# Altium footprint library Connector_PinHeader_2.54mm.PcbLib: 278 footprints (part 13 of 18)
Each footprint in its own frame and in the unit in brackets; x right, y up, seen from the top. Pads: shape width x height; smd on the part's side, far side on the other; paste and mask are expansions set on the pad; w line width, h text height; cw(c..) or ccw(c..) is an arc to the next point about the centre after c.
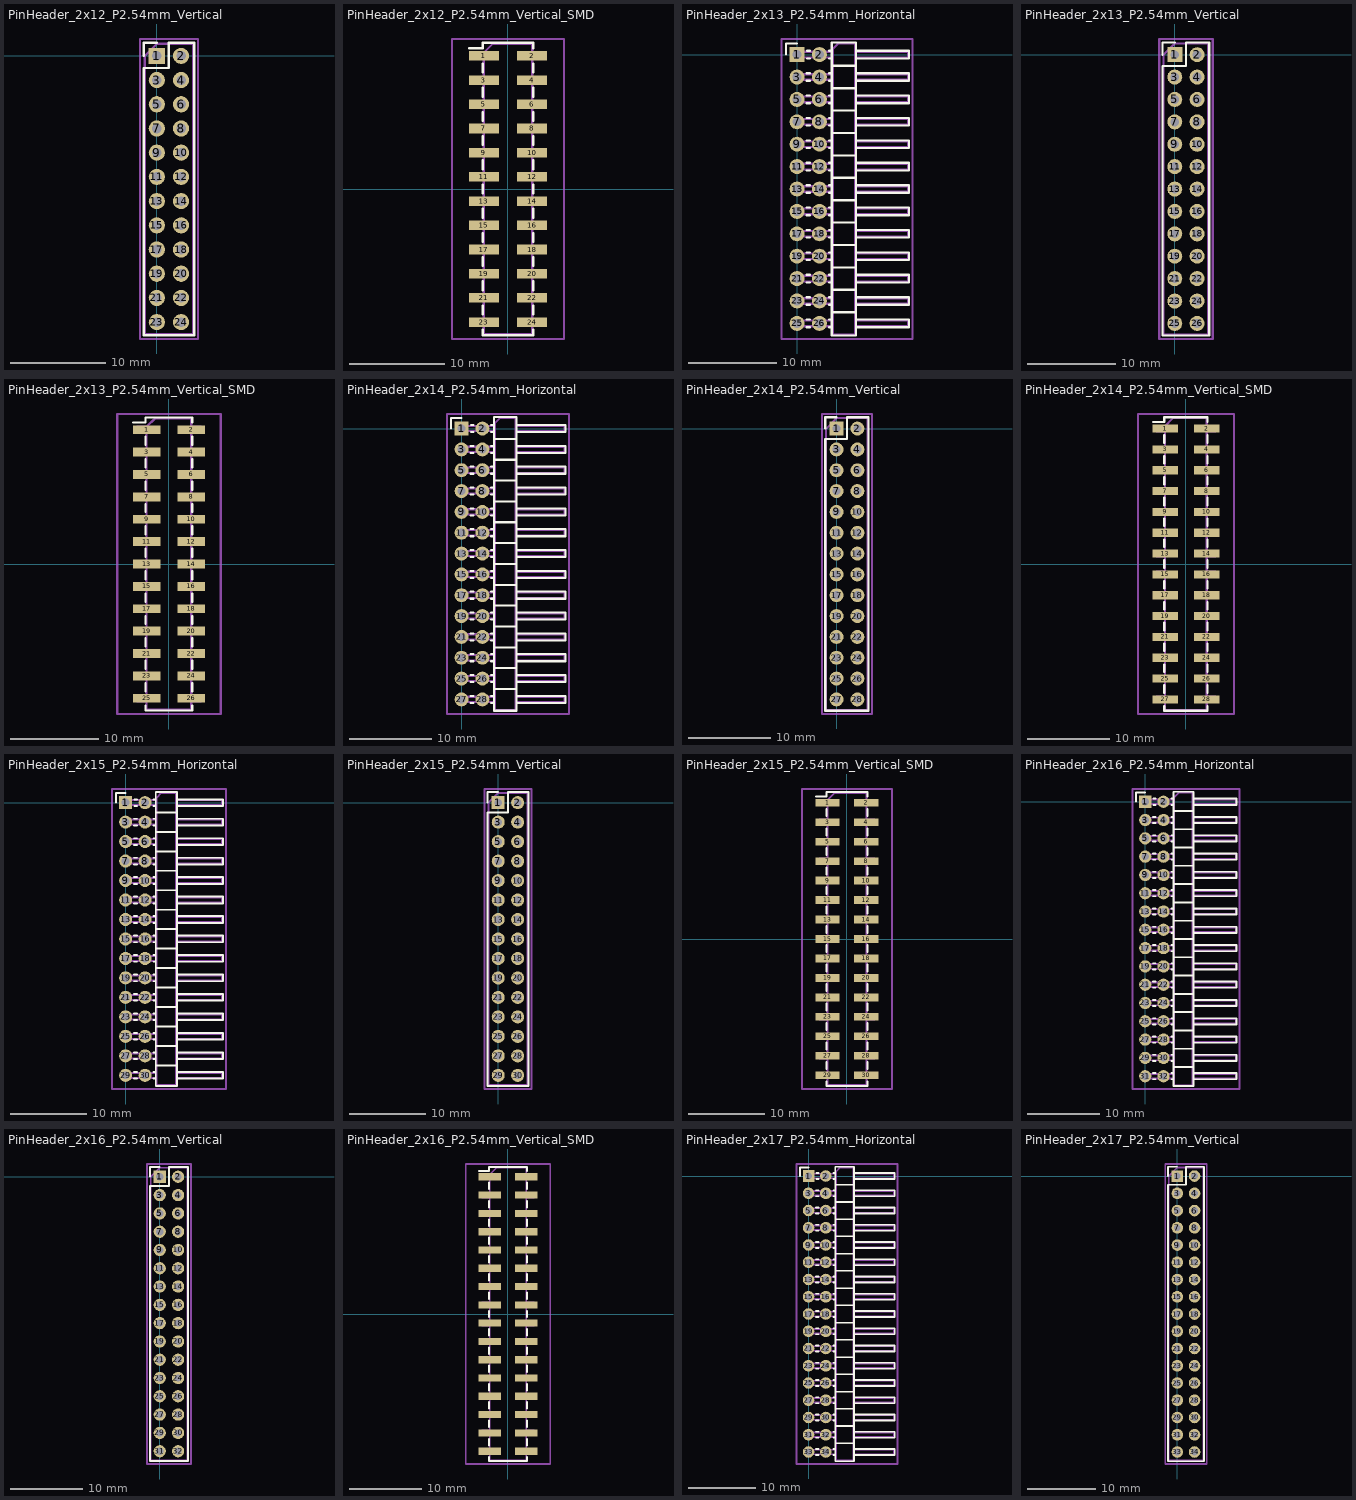
[diagram p12: the footprints below, top view; thin cyan lines are the x and y axes]

## PinHeader_2x12_P2.54mm_Vertical [mm]
pads (24):
  rect 1.7x1.7 hole 1: 1(0,0)
  round 1.7 hole 1: 2(2.54,0) 3(0,-2.54) 4(2.54,-2.54) 5(0,-5.08) 6(2.54,-5.08) 7(0,-7.62) 8(2.54,-7.62) 9(0,-10.16) 10(2.54,-10.16) 11(0,-12.7) 12(2.54,-12.7) 13(0,-15.24) 14(2.54,-15.24) 15(0,-17.78) 16(2.54,-17.78) 17(0,-20.32) 18(2.54,-20.32) 19(0,-22.86) 20(2.54,-22.86) 21(0,-25.4) 22(2.54,-25.4) 23(0,-27.94) 24(2.54,-27.94)
F.SilkS:
  lines w0.254: -1.38,0 -1.38,1.38 0,1.38 ; -1.38,-29.32 3.92,-29.32 3.92,1.38 1.27,1.38 1.27,-1.27 -1.38,-1.27 -1.38,-29.32
Top Assembly:
  lines w0.254: -1.27,-29.21 3.81,-29.21 3.81,1.27 0,1.27 -1.27,0 -1.27,-29.21
  text "'.Designator'" at 2.11,-18.017 h1
Top Courtyard:
  lines w0.254: -1.77,-29.71 4.32,-29.71 4.32,1.77 -1.77,1.77 -1.77,-29.71
Top Designator:
  text ".Designator" at -6.343,-14.478 h1.52

## PinHeader_2x12_P2.54mm_Vertical_SMD [mm]
pads (24):
  rect 3.15x1 smd: 1(-2.525,13.97) 2(2.525,13.97) 3(-2.525,11.43) 4(2.525,11.43) 5(-2.525,8.89) 6(2.525,8.89) 7(-2.525,6.35) 8(2.525,6.35) 9(-2.525,3.81) 10(2.525,3.81) 11(-2.525,1.27) 12(2.525,1.27) 13(-2.525,-1.27) 14(2.525,-1.27) 15(-2.525,-3.81) 16(2.525,-3.81) 17(-2.525,-6.35) 18(2.525,-6.35) 19(-2.525,-8.89) 20(2.525,-8.89) 21(-2.525,-11.43) 22(2.525,-11.43) 23(-2.525,-13.97) 24(2.525,-13.97)
F.SilkS:
  lines w0.254: -4.04,14.78 -2.65,14.78 -2.65,15.35 2.65,15.35 2.65,14.78 ; -2.65,-14.78 -2.65,-15.35 2.65,-15.35 2.65,-14.78 ; -2.65,-13.16 -2.65,-12.24 ; -2.65,-10.62 -2.65,-9.7 ; -2.65,-8.08 -2.65,-7.16 ; -2.65,-5.54 -2.65,-4.62 ; -2.65,-3 -2.65,-2.08 ; -2.65,-0.46 -2.65,0.46 ; -2.65,2.08 -2.65,3 ; -2.65,4.62 -2.65,5.54 ; -2.65,7.16 -2.65,8.08 ; -2.65,9.7 -2.65,10.62 ; -2.65,12.24 -2.65,13.16 ; 2.65,-13.16 2.65,-12.24 ; 2.65,-10.62 2.65,-9.7 ; 2.65,-8.08 2.65,-7.16 ; 2.65,-5.54 2.65,-4.62 ; 2.65,-3 2.65,-2.08 ; 2.65,-0.46 2.65,0.46 ; 2.65,2.08 2.65,3 ; 2.65,4.62 2.65,5.54 ; 2.65,7.16 2.65,8.08 ; 2.65,9.7 2.65,10.62 ; 2.65,12.24 2.65,13.16
Top Assembly:
  lines w0.254: -2.54,-14.29 -3.6,-14.29 -3.6,-13.65 -2.54,-13.65 ; -2.54,-11.75 -3.6,-11.75 -3.6,-11.11 -2.54,-11.11 ; -2.54,-9.21 -3.6,-9.21 -3.6,-8.57 -2.54,-8.57 ; -2.54,-6.67 -3.6,-6.67 -3.6,-6.03 -2.54,-6.03 ; -2.54,-4.13 -3.6,-4.13 -3.6,-3.49 -2.54,-3.49 ; -2.54,-1.59 -3.6,-1.59 -3.6,-0.95 -2.54,-0.95 ; -2.54,0.95 -3.6,0.95 -3.6,1.59 -2.54,1.59 ; -2.54,3.49 -3.6,3.49 -3.6,4.13 -2.54,4.13 ; -2.54,6.03 -3.6,6.03 -3.6,6.67 -2.54,6.67 ; -2.54,8.57 -3.6,8.57 -3.6,9.21 -2.54,9.21 ; -2.54,11.11 -3.6,11.11 -3.6,11.75 -2.54,11.75 ; -2.54,13.65 -3.6,13.65 -3.6,14.29 -2.54,14.29 ; 2.54,-14.29 3.6,-14.29 3.6,-13.65 2.54,-13.65 ; 2.54,-11.75 3.6,-11.75 3.6,-11.11 2.54,-11.11 ; 2.54,-9.21 3.6,-9.21 3.6,-8.57 2.54,-8.57 ; 2.54,-6.67 3.6,-6.67 3.6,-6.03 2.54,-6.03 ; 2.54,-4.13 3.6,-4.13 3.6,-3.49 2.54,-3.49 ; 2.54,-1.59 3.6,-1.59 3.6,-0.95 2.54,-0.95 ; 2.54,0.95 3.6,0.95 3.6,1.59 2.54,1.59 ; 2.54,3.49 3.6,3.49 3.6,4.13 2.54,4.13 ; 2.54,6.03 3.6,6.03 3.6,6.67 2.54,6.67 ; 2.54,8.57 3.6,8.57 3.6,9.21 2.54,9.21 ; 2.54,11.11 3.6,11.11 3.6,11.75 2.54,11.75 ; 2.54,13.65 3.6,13.65 3.6,14.29 2.54,14.29 ; -2.54,14.29 -2.54,-15.24 2.54,-15.24 2.54,15.24 -1.59,15.24 -2.54,14.29
  text "'.Designator'" at 0.84,-4.047 h1
Top Courtyard:
  lines w0.254: -5.87,-15.74 5.88,-15.74 5.88,15.74 -5.87,15.74 -5.87,-15.74
Top Designator:
  text ".Designator" at -7.613,-0.508 h1.52

## PinHeader_2x13_P2.54mm_Horizontal [mm]
pads (26):
  rect 1.7x1.7 hole 1: 1(0,0)
  round 1.7 hole 1: 2(2.54,0) 3(0,-2.54) 4(2.54,-2.54) 5(0,-5.08) 6(2.54,-5.08) 7(0,-7.62) 8(2.54,-7.62) 9(0,-10.16) 10(2.54,-10.16) 11(0,-12.7) 12(2.54,-12.7) 13(0,-15.24) 14(2.54,-15.24) 15(0,-17.78) 16(2.54,-17.78) 17(0,-20.32) 18(2.54,-20.32) 19(0,-22.86) 20(2.54,-22.86) 21(0,-25.4) 22(2.54,-25.4) 23(0,-27.94) 24(2.54,-27.94) 25(0,-30.48) 26(2.54,-30.48)
F.SilkS:
  lines w0.254: -1.27,0 -1.27,1.27 0,1.27 ; 1.077,-30.91 1.463,-30.91 ; 1.077,-30.05 1.463,-30.05 ; 1.077,-28.37 1.463,-28.37 ; 1.077,-27.51 1.463,-27.51 ; 1.077,-25.83 1.463,-25.83 ; 1.077,-24.97 1.463,-24.97 ; 1.077,-23.29 1.463,-23.29 ; 1.077,-22.43 1.463,-22.43 ; 1.077,-20.75 1.463,-20.75 ; 1.077,-19.89 1.463,-19.89 ; 1.077,-18.21 1.463,-18.21 ; 1.077,-17.35 1.463,-17.35 ; 1.077,-15.67 1.463,-15.67 ; 1.077,-14.81 1.463,-14.81 ; 1.077,-13.13 1.463,-13.13 ; 1.077,-12.27 1.463,-12.27 ; 1.077,-10.59 1.463,-10.59 ; 1.077,-9.73 1.463,-9.73 ; 1.077,-8.05 1.463,-8.05 ; 1.077,-7.19 1.463,-7.19 ; 1.077,-5.51 1.463,-5.51 ; 1.077,-4.65 1.463,-4.65 ; 1.077,-2.97 1.463,-2.97 ; 1.077,-2.11 1.463,-2.11 ; 1.16,-0.43 1.463,-0.43 ; 1.16,0.43 1.463,0.43 ; 3.617,-30.91 3.93,-30.91 ; 3.617,-30.05 3.93,-30.05 ; 3.617,-28.37 3.93,-28.37 ; 3.617,-27.51 3.93,-27.51 ; 3.617,-25.83 3.93,-25.83 ; 3.617,-24.97 3.93,-24.97 ; 3.617,-23.29 3.93,-23.29 ; 3.617,-22.43 3.93,-22.43 ; 3.617,-20.75 3.93,-20.75 ; 3.617,-19.89 3.93,-19.89 ; 3.617,-18.21 3.93,-18.21 ; 3.617,-17.35 3.93,-17.35 ; 3.617,-15.67 3.93,-15.67 ; 3.617,-14.81 3.93,-14.81 ; 3.617,-13.13 3.93,-13.13 ; 3.617,-12.27 3.93,-12.27 ; 3.617,-10.59 3.93,-10.59 ; 3.617,-9.73 3.93,-9.73 ; 3.617,-8.05 3.93,-8.05 ; 3.617,-7.19 3.93,-7.19 ; 3.617,-5.51 3.93,-5.51 ; 3.617,-4.65 3.93,-4.65 ; 3.617,-2.97 3.93,-2.97 ; 3.617,-2.11 3.93,-2.11 ; 3.617,-0.43 3.93,-0.43 ; 3.617,0.43 3.93,0.43 ; 3.93,-29.21 6.69,-29.21 ; 3.93,-26.67 6.69,-26.67 ; 3.93,-24.13 6.69,-24.13 ; 3.93,-21.59 6.69,-21.59 ; 3.93,-19.05 6.69,-19.05 ; 3.93,-16.51 6.69,-16.51 ; 3.93,-13.97 6.69,-13.97 ; 3.93,-11.43 6.69,-11.43 ; 3.93,-8.89 6.69,-8.89 ; 3.93,-6.35 6.69,-6.35 ; 3.93,-3.81 6.69,-3.81 ; 3.93,-1.27 6.69,-1.27 ; 6.69,-30.91 12.69,-30.91 12.69,-30.05 6.69,-30.05 ; 6.69,-28.37 12.69,-28.37 12.69,-27.51 6.69,-27.51 ; 6.69,-25.83 12.69,-25.83 12.69,-24.97 6.69,-24.97 ; 6.69,-23.29 12.69,-23.29 12.69,-22.43 6.69,-22.43 ; 6.69,-20.75 12.69,-20.75 12.69,-19.89 6.69,-19.89 ; 6.69,-18.21 12.69,-18.21 12.69,-17.35 6.69,-17.35 ; 6.69,-15.67 12.69,-15.67 12.69,-14.81 6.69,-14.81 ; 6.69,-13.13 12.69,-13.13 12.69,-12.27 6.69,-12.27 ; 6.69,-10.59 12.69,-10.59 12.69,-9.73 6.69,-9.73 ; 6.69,-8.05 12.69,-8.05 12.69,-7.19 6.69,-7.19 ; 6.69,-5.51 12.69,-5.51 12.69,-4.65 6.69,-4.65 ; 6.69,-2.97 12.69,-2.97 12.69,-2.11 6.69,-2.11 ; 3.93,-31.86 6.69,-31.86 6.69,1.38 3.93,1.38 3.93,-31.86 ; 6.69,-0.43 12.69,-0.43 12.69,0.43 6.69,0.43 6.69,-0.43
Top Assembly:
  lines w0.254: 4.04,-30.8 -0.32,-30.8 -0.32,-30.16 4.04,-30.16 ; 4.04,-28.26 -0.32,-28.26 -0.32,-27.62 4.04,-27.62 ; 4.04,-25.72 -0.32,-25.72 -0.32,-25.08 4.04,-25.08 ; 4.04,-23.18 -0.32,-23.18 -0.32,-22.54 4.04,-22.54 ; 4.04,-20.64 -0.32,-20.64 -0.32,-20 4.04,-20 ; 4.04,-18.1 -0.32,-18.1 -0.32,-17.46 4.04,-17.46 ; 4.04,-15.56 -0.32,-15.56 -0.32,-14.92 4.04,-14.92 ; 4.04,-13.02 -0.32,-13.02 -0.32,-12.38 4.04,-12.38 ; 4.04,-10.48 -0.32,-10.48 -0.32,-9.84 4.04,-9.84 ; 4.04,-7.94 -0.32,-7.94 -0.32,-7.3 4.04,-7.3 ; 4.04,-5.4 -0.32,-5.4 -0.32,-4.76 4.04,-4.76 ; 4.04,-2.86 -0.32,-2.86 -0.32,-2.22 4.04,-2.22 ; 4.04,-0.32 -0.32,-0.32 -0.32,0.32 4.04,0.32 ; 6.58,-30.8 12.58,-30.8 12.58,-30.16 6.58,-30.16 ; 6.58,-28.26 12.58,-28.26 12.58,-27.62 6.58,-27.62 ; 6.58,-25.72 12.58,-25.72 12.58,-25.08 6.58,-25.08 ; 6.58,-23.18 12.58,-23.18 12.58,-22.54 6.58,-22.54 ; 6.58,-20.64 12.58,-20.64 12.58,-20 6.58,-20 ; 6.58,-18.1 12.58,-18.1 12.58,-17.46 6.58,-17.46 ; 6.58,-15.56 12.58,-15.56 12.58,-14.92 6.58,-14.92 ; 6.58,-13.02 12.58,-13.02 12.58,-12.38 6.58,-12.38 ; 6.58,-10.48 12.58,-10.48 12.58,-9.84 6.58,-9.84 ; 6.58,-7.94 12.58,-7.94 12.58,-7.3 6.58,-7.3 ; 6.58,-5.4 12.58,-5.4 12.58,-4.76 6.58,-4.76 ; 6.58,-2.86 12.58,-2.86 12.58,-2.22 6.58,-2.22 ; 6.58,-0.32 12.58,-0.32 12.58,0.32 6.58,0.32 ; 4.04,-31.75 6.58,-31.75 6.58,1.27 4.675,1.27 4.04,0.635 4.04,-31.75
  text "'.Designator'" at 6.15,-19.287 h1
Top Courtyard:
  lines w0.254: -1.77,-32.25 13.09,-32.25 13.09,1.77 -1.77,1.77 -1.77,-32.25
Top Designator:
  text ".Designator" at -1.958,-15.748 h1.52

## PinHeader_2x13_P2.54mm_Vertical [mm]
pads (26):
  rect 1.7x1.7 hole 1: 1(0,0)
  round 1.7 hole 1: 2(2.54,0) 3(0,-2.54) 4(2.54,-2.54) 5(0,-5.08) 6(2.54,-5.08) 7(0,-7.62) 8(2.54,-7.62) 9(0,-10.16) 10(2.54,-10.16) 11(0,-12.7) 12(2.54,-12.7) 13(0,-15.24) 14(2.54,-15.24) 15(0,-17.78) 16(2.54,-17.78) 17(0,-20.32) 18(2.54,-20.32) 19(0,-22.86) 20(2.54,-22.86) 21(0,-25.4) 22(2.54,-25.4) 23(0,-27.94) 24(2.54,-27.94) 25(0,-30.48) 26(2.54,-30.48)
F.SilkS:
  lines w0.254: -1.38,0 -1.38,1.38 0,1.38 ; -1.38,-31.86 3.92,-31.86 3.92,1.38 1.27,1.38 1.27,-1.27 -1.38,-1.27 -1.38,-31.86
Top Assembly:
  lines w0.254: -1.27,-31.75 3.81,-31.75 3.81,1.27 0,1.27 -1.27,0 -1.27,-31.75
  text "'.Designator'" at 2.11,-19.287 h1
Top Courtyard:
  lines w0.254: -1.77,-32.25 4.32,-32.25 4.32,1.78 -1.77,1.78 -1.77,-32.25
Top Designator:
  text ".Designator" at -6.343,-15.743 h1.52

## PinHeader_2x13_P2.54mm_Vertical_SMD [mm]
pads (26):
  rect 3.15x1 smd: 1(-2.525,15.24) 2(2.525,15.24) 3(-2.525,12.7) 4(2.525,12.7) 5(-2.525,10.16) 6(2.525,10.16) 7(-2.525,7.62) 8(2.525,7.62) 9(-2.525,5.08) 10(2.525,5.08) 11(-2.525,2.54) 12(2.525,2.54) 13(-2.525,0) 14(2.525,0) 15(-2.525,-2.54) 16(2.525,-2.54) 17(-2.525,-5.08) 18(2.525,-5.08) 19(-2.525,-7.62) 20(2.525,-7.62) 21(-2.525,-10.16) 22(2.525,-10.16) 23(-2.525,-12.7) 24(2.525,-12.7) 25(-2.525,-15.24) 26(2.525,-15.24)
F.SilkS:
  lines w0.254: -4.04,16.05 -2.65,16.05 -2.65,16.62 2.65,16.62 2.65,16.05 ; -2.65,-16.05 -2.65,-16.62 2.65,-16.62 2.65,-16.05 ; -2.65,-14.43 -2.65,-13.51 ; -2.65,-11.89 -2.65,-10.97 ; -2.65,-9.35 -2.65,-8.43 ; -2.65,-6.81 -2.65,-5.89 ; -2.65,-4.27 -2.65,-3.35 ; -2.65,-1.73 -2.65,-0.81 ; -2.65,0.81 -2.65,1.73 ; -2.65,3.35 -2.65,4.27 ; -2.65,5.89 -2.65,6.81 ; -2.65,8.43 -2.65,9.35 ; -2.65,10.97 -2.65,11.89 ; -2.65,13.51 -2.65,14.43 ; 2.65,-14.43 2.65,-13.51 ; 2.65,-11.89 2.65,-10.97 ; 2.65,-9.35 2.65,-8.43 ; 2.65,-6.81 2.65,-5.89 ; 2.65,-4.27 2.65,-3.35 ; 2.65,-1.73 2.65,-0.81 ; 2.65,0.81 2.65,1.73 ; 2.65,3.35 2.65,4.27 ; 2.65,5.89 2.65,6.81 ; 2.65,8.43 2.65,9.35 ; 2.65,10.97 2.65,11.89 ; 2.65,13.51 2.65,14.43
Top Assembly:
  lines w0.254: -2.54,-15.56 -3.6,-15.56 -3.6,-14.92 -2.54,-14.92 ; -2.54,-13.02 -3.6,-13.02 -3.6,-12.38 -2.54,-12.38 ; -2.54,-10.48 -3.6,-10.48 -3.6,-9.84 -2.54,-9.84 ; -2.54,-7.94 -3.6,-7.94 -3.6,-7.3 -2.54,-7.3 ; -2.54,-5.4 -3.6,-5.4 -3.6,-4.76 -2.54,-4.76 ; -2.54,-2.86 -3.6,-2.86 -3.6,-2.22 -2.54,-2.22 ; -2.54,-0.32 -3.6,-0.32 -3.6,0.32 -2.54,0.32 ; -2.54,2.22 -3.6,2.22 -3.6,2.86 -2.54,2.86 ; -2.54,4.76 -3.6,4.76 -3.6,5.4 -2.54,5.4 ; -2.54,7.3 -3.6,7.3 -3.6,7.94 -2.54,7.94 ; -2.54,9.84 -3.6,9.84 -3.6,10.48 -2.54,10.48 ; -2.54,12.38 -3.6,12.38 -3.6,13.02 -2.54,13.02 ; -2.54,14.92 -3.6,14.92 -3.6,15.56 -2.54,15.56 ; 2.54,-15.56 3.6,-15.56 3.6,-14.92 2.54,-14.92 ; 2.54,-13.02 3.6,-13.02 3.6,-12.38 2.54,-12.38 ; 2.54,-10.48 3.6,-10.48 3.6,-9.84 2.54,-9.84 ; 2.54,-7.94 3.6,-7.94 3.6,-7.3 2.54,-7.3 ; 2.54,-5.4 3.6,-5.4 3.6,-4.76 2.54,-4.76 ; 2.54,-2.86 3.6,-2.86 3.6,-2.22 2.54,-2.22 ; 2.54,-0.32 3.6,-0.32 3.6,0.32 2.54,0.32 ; 2.54,2.22 3.6,2.22 3.6,2.86 2.54,2.86 ; 2.54,4.76 3.6,4.76 3.6,5.4 2.54,5.4 ; 2.54,7.3 3.6,7.3 3.6,7.94 2.54,7.94 ; 2.54,9.84 3.6,9.84 3.6,10.48 2.54,10.48 ; 2.54,12.38 3.6,12.38 3.6,13.02 2.54,13.02 ; 2.54,14.92 3.6,14.92 3.6,15.56 2.54,15.56 ; -2.54,15.56 -2.54,-16.51 2.54,-16.51 2.54,16.51 -1.59,16.51 -2.54,15.56
  text "'.Designator'" at 0.84,-4.047 h1
Top Courtyard:
  lines w0.254: -5.87,-17.02 5.88,-17.02 5.88,17.02 -5.87,17.02 -5.87,-17.02
Top Designator:
  text ".Designator" at -7.613,-0.508 h1.52

## PinHeader_2x14_P2.54mm_Horizontal [mm]
pads (28):
  rect 1.7x1.7 hole 1: 1(0,0)
  round 1.7 hole 1: 2(2.54,0) 3(0,-2.54) 4(2.54,-2.54) 5(0,-5.08) 6(2.54,-5.08) 7(0,-7.62) 8(2.54,-7.62) 9(0,-10.16) 10(2.54,-10.16) 11(0,-12.7) 12(2.54,-12.7) 13(0,-15.24) 14(2.54,-15.24) 15(0,-17.78) 16(2.54,-17.78) 17(0,-20.32) 18(2.54,-20.32) 19(0,-22.86) 20(2.54,-22.86) 21(0,-25.4) 22(2.54,-25.4) 23(0,-27.94) 24(2.54,-27.94) 25(0,-30.48) 26(2.54,-30.48) 27(0,-33.02) 28(2.54,-33.02)
F.SilkS:
  lines w0.254: -1.27,0 -1.27,1.27 0,1.27 ; 1.077,-33.45 1.463,-33.45 ; 1.077,-32.59 1.463,-32.59 ; 1.077,-30.91 1.463,-30.91 ; 1.077,-30.05 1.463,-30.05 ; 1.077,-28.37 1.463,-28.37 ; 1.077,-27.51 1.463,-27.51 ; 1.077,-25.83 1.463,-25.83 ; 1.077,-24.97 1.463,-24.97 ; 1.077,-23.29 1.463,-23.29 ; 1.077,-22.43 1.463,-22.43 ; 1.077,-20.75 1.463,-20.75 ; 1.077,-19.89 1.463,-19.89 ; 1.077,-18.21 1.463,-18.21 ; 1.077,-17.35 1.463,-17.35 ; 1.077,-15.67 1.463,-15.67 ; 1.077,-14.81 1.463,-14.81 ; 1.077,-13.13 1.463,-13.13 ; 1.077,-12.27 1.463,-12.27 ; 1.077,-10.59 1.463,-10.59 ; 1.077,-9.73 1.463,-9.73 ; 1.077,-8.05 1.463,-8.05 ; 1.077,-7.19 1.463,-7.19 ; 1.077,-5.51 1.463,-5.51 ; 1.077,-4.65 1.463,-4.65 ; 1.077,-2.97 1.463,-2.97 ; 1.077,-2.11 1.463,-2.11 ; 1.16,-0.43 1.463,-0.43 ; 1.16,0.43 1.463,0.43 ; 3.617,-33.45 3.93,-33.45 ; 3.617,-32.59 3.93,-32.59 ; 3.617,-30.91 3.93,-30.91 ; 3.617,-30.05 3.93,-30.05 ; 3.617,-28.37 3.93,-28.37 ; 3.617,-27.51 3.93,-27.51 ; 3.617,-25.83 3.93,-25.83 ; 3.617,-24.97 3.93,-24.97 ; 3.617,-23.29 3.93,-23.29 ; 3.617,-22.43 3.93,-22.43 ; 3.617,-20.75 3.93,-20.75 ; 3.617,-19.89 3.93,-19.89 ; 3.617,-18.21 3.93,-18.21 ; 3.617,-17.35 3.93,-17.35 ; 3.617,-15.67 3.93,-15.67 ; 3.617,-14.81 3.93,-14.81 ; 3.617,-13.13 3.93,-13.13 ; 3.617,-12.27 3.93,-12.27 ; 3.617,-10.59 3.93,-10.59 ; 3.617,-9.73 3.93,-9.73 ; 3.617,-8.05 3.93,-8.05 ; 3.617,-7.19 3.93,-7.19 ; 3.617,-5.51 3.93,-5.51 ; 3.617,-4.65 3.93,-4.65 ; 3.617,-2.97 3.93,-2.97 ; 3.617,-2.11 3.93,-2.11 ; 3.617,-0.43 3.93,-0.43 ; 3.617,0.43 3.93,0.43 ; 3.93,-31.75 6.69,-31.75 ; 3.93,-29.21 6.69,-29.21 ; 3.93,-26.67 6.69,-26.67 ; 3.93,-24.13 6.69,-24.13 ; 3.93,-21.59 6.69,-21.59 ; 3.93,-19.05 6.69,-19.05 ; 3.93,-16.51 6.69,-16.51 ; 3.93,-13.97 6.69,-13.97 ; 3.93,-11.43 6.69,-11.43 ; 3.93,-8.89 6.69,-8.89 ; 3.93,-6.35 6.69,-6.35 ; 3.93,-3.81 6.69,-3.81 ; 3.93,-1.27 6.69,-1.27 ; 6.69,-33.45 12.69,-33.45 12.69,-32.59 6.69,-32.59 ; 6.69,-30.91 12.69,-30.91 12.69,-30.05 6.69,-30.05 ; 6.69,-28.37 12.69,-28.37 12.69,-27.51 6.69,-27.51 ; 6.69,-25.83 12.69,-25.83 12.69,-24.97 6.69,-24.97 ; 6.69,-23.29 12.69,-23.29 12.69,-22.43 6.69,-22.43 ; 6.69,-20.75 12.69,-20.75 12.69,-19.89 6.69,-19.89 ; 6.69,-18.21 12.69,-18.21 12.69,-17.35 6.69,-17.35 ; 6.69,-15.67 12.69,-15.67 12.69,-14.81 6.69,-14.81 ; 6.69,-13.13 12.69,-13.13 12.69,-12.27 6.69,-12.27 ; 6.69,-10.59 12.69,-10.59 12.69,-9.73 6.69,-9.73 ; 6.69,-8.05 12.69,-8.05 12.69,-7.19 6.69,-7.19 ; 6.69,-5.51 12.69,-5.51 12.69,-4.65 6.69,-4.65 ; 6.69,-2.97 12.69,-2.97 12.69,-2.11 6.69,-2.11 ; 3.93,-34.4 6.69,-34.4 6.69,1.38 3.93,1.38 3.93,-34.4 ; 6.69,-0.43 12.69,-0.43 12.69,0.43 6.69,0.43 6.69,-0.43
Top Assembly:
  lines w0.254: 4.04,-33.34 -0.32,-33.34 -0.32,-32.7 4.04,-32.7 ; 4.04,-30.8 -0.32,-30.8 -0.32,-30.16 4.04,-30.16 ; 4.04,-28.26 -0.32,-28.26 -0.32,-27.62 4.04,-27.62 ; 4.04,-25.72 -0.32,-25.72 -0.32,-25.08 4.04,-25.08 ; 4.04,-23.18 -0.32,-23.18 -0.32,-22.54 4.04,-22.54 ; 4.04,-20.64 -0.32,-20.64 -0.32,-20 4.04,-20 ; 4.04,-18.1 -0.32,-18.1 -0.32,-17.46 4.04,-17.46 ; 4.04,-15.56 -0.32,-15.56 -0.32,-14.92 4.04,-14.92 ; 4.04,-13.02 -0.32,-13.02 -0.32,-12.38 4.04,-12.38 ; 4.04,-10.48 -0.32,-10.48 -0.32,-9.84 4.04,-9.84 ; 4.04,-7.94 -0.32,-7.94 -0.32,-7.3 4.04,-7.3 ; 4.04,-5.4 -0.32,-5.4 -0.32,-4.76 4.04,-4.76 ; 4.04,-2.86 -0.32,-2.86 -0.32,-2.22 4.04,-2.22 ; 4.04,-0.32 -0.32,-0.32 -0.32,0.32 4.04,0.32 ; 6.58,-33.34 12.58,-33.34 12.58,-32.7 6.58,-32.7 ; 6.58,-30.8 12.58,-30.8 12.58,-30.16 6.58,-30.16 ; 6.58,-28.26 12.58,-28.26 12.58,-27.62 6.58,-27.62 ; 6.58,-25.72 12.58,-25.72 12.58,-25.08 6.58,-25.08 ; 6.58,-23.18 12.58,-23.18 12.58,-22.54 6.58,-22.54 ; 6.58,-20.64 12.58,-20.64 12.58,-20 6.58,-20 ; 6.58,-18.1 12.58,-18.1 12.58,-17.46 6.58,-17.46 ; 6.58,-15.56 12.58,-15.56 12.58,-14.92 6.58,-14.92 ; 6.58,-13.02 12.58,-13.02 12.58,-12.38 6.58,-12.38 ; 6.58,-10.48 12.58,-10.48 12.58,-9.84 6.58,-9.84 ; 6.58,-7.94 12.58,-7.94 12.58,-7.3 6.58,-7.3 ; 6.58,-5.4 12.58,-5.4 12.58,-4.76 6.58,-4.76 ; 6.58,-2.86 12.58,-2.86 12.58,-2.22 6.58,-2.22 ; 6.58,-0.32 12.58,-0.32 12.58,0.32 6.58,0.32 ; 4.04,-34.29 6.58,-34.29 6.58,1.27 4.675,1.27 4.04,0.635 4.04,-34.29
  text "'.Designator'" at 6.15,-20.557 h1
Top Courtyard:
  lines w0.254: -1.77,-34.8 13.09,-34.8 13.09,1.77 -1.77,1.77 -1.77,-34.8
Top Designator:
  text ".Designator" at -1.958,-17.023 h1.52

## PinHeader_2x14_P2.54mm_Vertical [mm]
pads (28):
  rect 1.7x1.7 hole 1: 1(0,0)
  round 1.7 hole 1: 2(2.54,0) 3(0,-2.54) 4(2.54,-2.54) 5(0,-5.08) 6(2.54,-5.08) 7(0,-7.62) 8(2.54,-7.62) 9(0,-10.16) 10(2.54,-10.16) 11(0,-12.7) 12(2.54,-12.7) 13(0,-15.24) 14(2.54,-15.24) 15(0,-17.78) 16(2.54,-17.78) 17(0,-20.32) 18(2.54,-20.32) 19(0,-22.86) 20(2.54,-22.86) 21(0,-25.4) 22(2.54,-25.4) 23(0,-27.94) 24(2.54,-27.94) 25(0,-30.48) 26(2.54,-30.48) 27(0,-33.02) 28(2.54,-33.02)
F.SilkS:
  lines w0.254: -1.38,0 -1.38,1.38 0,1.38 ; -1.38,-34.4 3.92,-34.4 3.92,1.38 1.27,1.38 1.27,-1.27 -1.38,-1.27 -1.38,-34.4
Top Assembly:
  lines w0.254: -1.27,-34.29 3.81,-34.29 3.81,1.27 0,1.27 -1.27,0 -1.27,-34.29
  text "'.Designator'" at 2.11,-20.557 h1
Top Courtyard:
  lines w0.254: -1.77,-34.8 4.32,-34.8 4.32,1.78 -1.77,1.78 -1.77,-34.8
Top Designator:
  text ".Designator" at -6.343,-17.018 h1.52

## PinHeader_2x14_P2.54mm_Vertical_SMD [mm]
pads (28):
  rect 3.15x1 smd: 1(-2.525,16.51) 2(2.525,16.51) 3(-2.525,13.97) 4(2.525,13.97) 5(-2.525,11.43) 6(2.525,11.43) 7(-2.525,8.89) 8(2.525,8.89) 9(-2.525,6.35) 10(2.525,6.35) 11(-2.525,3.81) 12(2.525,3.81) 13(-2.525,1.27) 14(2.525,1.27) 15(-2.525,-1.27) 16(2.525,-1.27) 17(-2.525,-3.81) 18(2.525,-3.81) 19(-2.525,-6.35) 20(2.525,-6.35) 21(-2.525,-8.89) 22(2.525,-8.89) 23(-2.525,-11.43) 24(2.525,-11.43) 25(-2.525,-13.97) 26(2.525,-13.97) 27(-2.525,-16.51) 28(2.525,-16.51)
F.SilkS:
  lines w0.254: -4.04,17.32 -2.65,17.32 -2.65,17.89 2.65,17.89 2.65,17.32 ; -2.65,-17.32 -2.65,-17.89 2.65,-17.89 2.65,-17.32 ; -2.65,-15.7 -2.65,-14.78 ; -2.65,-13.16 -2.65,-12.24 ; -2.65,-10.62 -2.65,-9.7 ; -2.65,-8.08 -2.65,-7.16 ; -2.65,-5.54 -2.65,-4.62 ; -2.65,-3 -2.65,-2.08 ; -2.65,-0.46 -2.65,0.46 ; -2.65,2.08 -2.65,3 ; -2.65,4.62 -2.65,5.54 ; -2.65,7.16 -2.65,8.08 ; -2.65,9.7 -2.65,10.62 ; -2.65,12.24 -2.65,13.16 ; -2.65,14.78 -2.65,15.7 ; 2.65,-15.7 2.65,-14.78 ; 2.65,-13.16 2.65,-12.24 ; 2.65,-10.62 2.65,-9.7 ; 2.65,-8.08 2.65,-7.16 ; 2.65,-5.54 2.65,-4.62 ; 2.65,-3 2.65,-2.08 ; 2.65,-0.46 2.65,0.46 ; 2.65,2.08 2.65,3 ; 2.65,4.62 2.65,5.54 ; 2.65,7.16 2.65,8.08 ; 2.65,9.7 2.65,10.62 ; 2.65,12.24 2.65,13.16 ; 2.65,14.78 2.65,15.7
Top Assembly:
  lines w0.254: -2.54,-16.83 -3.6,-16.83 -3.6,-16.19 -2.54,-16.19 ; -2.54,-14.29 -3.6,-14.29 -3.6,-13.65 -2.54,-13.65 ; -2.54,-11.75 -3.6,-11.75 -3.6,-11.11 -2.54,-11.11 ; -2.54,-9.21 -3.6,-9.21 -3.6,-8.57 -2.54,-8.57 ; -2.54,-6.67 -3.6,-6.67 -3.6,-6.03 -2.54,-6.03 ; -2.54,-4.13 -3.6,-4.13 -3.6,-3.49 -2.54,-3.49 ; -2.54,-1.59 -3.6,-1.59 -3.6,-0.95 -2.54,-0.95 ; -2.54,0.95 -3.6,0.95 -3.6,1.59 -2.54,1.59 ; -2.54,3.49 -3.6,3.49 -3.6,4.13 -2.54,4.13 ; -2.54,6.03 -3.6,6.03 -3.6,6.67 -2.54,6.67 ; -2.54,8.57 -3.6,8.57 -3.6,9.21 -2.54,9.21 ; -2.54,11.11 -3.6,11.11 -3.6,11.75 -2.54,11.75 ; -2.54,13.65 -3.6,13.65 -3.6,14.29 -2.54,14.29 ; -2.54,16.19 -3.6,16.19 -3.6,16.83 -2.54,16.83 ; 2.54,-16.83 3.6,-16.83 3.6,-16.19 2.54,-16.19 ; 2.54,-14.29 3.6,-14.29 3.6,-13.65 2.54,-13.65 ; 2.54,-11.75 3.6,-11.75 3.6,-11.11 2.54,-11.11 ; 2.54,-9.21 3.6,-9.21 3.6,-8.57 2.54,-8.57 ; 2.54,-6.67 3.6,-6.67 3.6,-6.03 2.54,-6.03 ; 2.54,-4.13 3.6,-4.13 3.6,-3.49 2.54,-3.49 ; 2.54,-1.59 3.6,-1.59 3.6,-0.95 2.54,-0.95 ; 2.54,0.95 3.6,0.95 3.6,1.59 2.54,1.59 ; 2.54,3.49 3.6,3.49 3.6,4.13 2.54,4.13 ; 2.54,6.03 3.6,6.03 3.6,6.67 2.54,6.67 ; 2.54,8.57 3.6,8.57 3.6,9.21 2.54,9.21 ; 2.54,11.11 3.6,11.11 3.6,11.75 2.54,11.75 ; 2.54,13.65 3.6,13.65 3.6,14.29 2.54,14.29 ; 2.54,16.19 3.6,16.19 3.6,16.83 2.54,16.83 ; -2.54,16.83 -2.54,-17.78 2.54,-17.78 2.54,17.78 -1.59,17.78 -2.54,16.83
  text "'.Designator'" at 0.84,-4.047 h1
Top Courtyard:
  lines w0.254: -5.87,-18.29 5.88,-18.29 5.88,18.29 -5.87,18.29 -5.87,-18.29
Top Designator:
  text ".Designator" at -7.613,-0.508 h1.52

## PinHeader_2x15_P2.54mm_Horizontal [mm]
pads (30):
  rect 1.7x1.7 hole 1: 1(0,0)
  round 1.7 hole 1: 2(2.54,0) 3(0,-2.54) 4(2.54,-2.54) 5(0,-5.08) 6(2.54,-5.08) 7(0,-7.62) 8(2.54,-7.62) 9(0,-10.16) 10(2.54,-10.16) 11(0,-12.7) 12(2.54,-12.7) 13(0,-15.24) 14(2.54,-15.24) 15(0,-17.78) 16(2.54,-17.78) 17(0,-20.32) 18(2.54,-20.32) 19(0,-22.86) 20(2.54,-22.86) 21(0,-25.4) 22(2.54,-25.4) 23(0,-27.94) 24(2.54,-27.94) 25(0,-30.48) 26(2.54,-30.48) 27(0,-33.02) 28(2.54,-33.02) 29(0,-35.56) 30(2.54,-35.56)
F.SilkS:
  lines w0.254: -1.27,0 -1.27,1.27 0,1.27 ; 1.077,-35.99 1.463,-35.99 ; 1.077,-35.13 1.463,-35.13 ; 1.077,-33.45 1.463,-33.45 ; 1.077,-32.59 1.463,-32.59 ; 1.077,-30.91 1.463,-30.91 ; 1.077,-30.05 1.463,-30.05 ; 1.077,-28.37 1.463,-28.37 ; 1.077,-27.51 1.463,-27.51 ; 1.077,-25.83 1.463,-25.83 ; 1.077,-24.97 1.463,-24.97 ; 1.077,-23.29 1.463,-23.29 ; 1.077,-22.43 1.463,-22.43 ; 1.077,-20.75 1.463,-20.75 ; 1.077,-19.89 1.463,-19.89 ; 1.077,-18.21 1.463,-18.21 ; 1.077,-17.35 1.463,-17.35 ; 1.077,-15.67 1.463,-15.67 ; 1.077,-14.81 1.463,-14.81 ; 1.077,-13.13 1.463,-13.13 ; 1.077,-12.27 1.463,-12.27 ; 1.077,-10.59 1.463,-10.59 ; 1.077,-9.73 1.463,-9.73 ; 1.077,-8.05 1.463,-8.05 ; 1.077,-7.19 1.463,-7.19 ; 1.077,-5.51 1.463,-5.51 ; 1.077,-4.65 1.463,-4.65 ; 1.077,-2.97 1.463,-2.97 ; 1.077,-2.11 1.463,-2.11 ; 1.16,-0.43 1.463,-0.43 ; 1.16,0.43 1.463,0.43 ; 3.617,-35.99 3.93,-35.99 ; 3.617,-35.13 3.93,-35.13 ; 3.617,-33.45 3.93,-33.45 ; 3.617,-32.59 3.93,-32.59 ; 3.617,-30.91 3.93,-30.91 ; 3.617,-30.05 3.93,-30.05 ; 3.617,-28.37 3.93,-28.37 ; 3.617,-27.51 3.93,-27.51 ; 3.617,-25.83 3.93,-25.83 ; 3.617,-24.97 3.93,-24.97 ; 3.617,-23.29 3.93,-23.29 ; 3.617,-22.43 3.93,-22.43 ; 3.617,-20.75 3.93,-20.75 ; 3.617,-19.89 3.93,-19.89 ; 3.617,-18.21 3.93,-18.21 ; 3.617,-17.35 3.93,-17.35 ; 3.617,-15.67 3.93,-15.67 ; 3.617,-14.81 3.93,-14.81 ; 3.617,-13.13 3.93,-13.13 ; 3.617,-12.27 3.93,-12.27 ; 3.617,-10.59 3.93,-10.59 ; 3.617,-9.73 3.93,-9.73 ; 3.617,-8.05 3.93,-8.05 ; 3.617,-7.19 3.93,-7.19 ; 3.617,-5.51 3.93,-5.51 ; 3.617,-4.65 3.93,-4.65 ; 3.617,-2.97 3.93,-2.97 ; 3.617,-2.11 3.93,-2.11 ; 3.617,-0.43 3.93,-0.43 ; 3.617,0.43 3.93,0.43 ; 3.93,-34.29 6.69,-34.29 ; 3.93,-31.75 6.69,-31.75 ; 3.93,-29.21 6.69,-29.21 ; 3.93,-26.67 6.69,-26.67 ; 3.93,-24.13 6.69,-24.13 ; 3.93,-21.59 6.69,-21.59 ; 3.93,-19.05 6.69,-19.05 ; 3.93,-16.51 6.69,-16.51 ; 3.93,-13.97 6.69,-13.97 ; 3.93,-11.43 6.69,-11.43 ; 3.93,-8.89 6.69,-8.89 ; 3.93,-6.35 6.69,-6.35 ; 3.93,-3.81 6.69,-3.81 ; 3.93,-1.27 6.69,-1.27 ; 6.69,-35.99 12.69,-35.99 12.69,-35.13 6.69,-35.13 ; 6.69,-33.45 12.69,-33.45 12.69,-32.59 6.69,-32.59 ; 6.69,-30.91 12.69,-30.91 12.69,-30.05 6.69,-30.05 ; 6.69,-28.37 12.69,-28.37 12.69,-27.51 6.69,-27.51 ; 6.69,-25.83 12.69,-25.83 12.69,-24.97 6.69,-24.97 ; 6.69,-23.29 12.69,-23.29 12.69,-22.43 6.69,-22.43 ; 6.69,-20.75 12.69,-20.75 12.69,-19.89 6.69,-19.89 ; 6.69,-18.21 12.69,-18.21 12.69,-17.35 6.69,-17.35 ; 6.69,-15.67 12.69,-15.67 12.69,-14.81 6.69,-14.81 ; 6.69,-13.13 12.69,-13.13 12.69,-12.27 6.69,-12.27 ; 6.69,-10.59 12.69,-10.59 12.69,-9.73 6.69,-9.73 ; 6.69,-8.05 12.69,-8.05 12.69,-7.19 6.69,-7.19 ; 6.69,-5.51 12.69,-5.51 12.69,-4.65 6.69,-4.65 ; 6.69,-2.97 12.69,-2.97 12.69,-2.11 6.69,-2.11 ; 3.93,-36.94 6.69,-36.94 6.69,1.38 3.93,1.38 3.93,-36.94 ; 6.69,-0.43 12.69,-0.43 12.69,0.43 6.69,0.43 6.69,-0.43
Top Assembly:
  lines w0.254: 4.04,-35.88 -0.32,-35.88 -0.32,-35.24 4.04,-35.24 ; 4.04,-33.34 -0.32,-33.34 -0.32,-32.7 4.04,-32.7 ; 4.04,-30.8 -0.32,-30.8 -0.32,-30.16 4.04,-30.16 ; 4.04,-28.26 -0.32,-28.26 -0.32,-27.62 4.04,-27.62 ; 4.04,-25.72 -0.32,-25.72 -0.32,-25.08 4.04,-25.08 ; 4.04,-23.18 -0.32,-23.18 -0.32,-22.54 4.04,-22.54 ; 4.04,-20.64 -0.32,-20.64 -0.32,-20 4.04,-20 ; 4.04,-18.1 -0.32,-18.1 -0.32,-17.46 4.04,-17.46 ; 4.04,-15.56 -0.32,-15.56 -0.32,-14.92 4.04,-14.92 ; 4.04,-13.02 -0.32,-13.02 -0.32,-12.38 4.04,-12.38 ; 4.04,-10.48 -0.32,-10.48 -0.32,-9.84 4.04,-9.84 ; 4.04,-7.94 -0.32,-7.94 -0.32,-7.3 4.04,-7.3 ; 4.04,-5.4 -0.32,-5.4 -0.32,-4.76 4.04,-4.76 ; 4.04,-2.86 -0.32,-2.86 -0.32,-2.22 4.04,-2.22 ; 4.04,-0.32 -0.32,-0.32 -0.32,0.32 4.04,0.32 ; 6.58,-35.88 12.58,-35.88 12.58,-35.24 6.58,-35.24 ; 6.58,-33.34 12.58,-33.34 12.58,-32.7 6.58,-32.7 ; 6.58,-30.8 12.58,-30.8 12.58,-30.16 6.58,-30.16 ; 6.58,-28.26 12.58,-28.26 12.58,-27.62 6.58,-27.62 ; 6.58,-25.72 12.58,-25.72 12.58,-25.08 6.58,-25.08 ; 6.58,-23.18 12.58,-23.18 12.58,-22.54 6.58,-22.54 ; 6.58,-20.64 12.58,-20.64 12.58,-20 6.58,-20 ; 6.58,-18.1 12.58,-18.1 12.58,-17.46 6.58,-17.46 ; 6.58,-15.56 12.58,-15.56 12.58,-14.92 6.58,-14.92 ; 6.58,-13.02 12.58,-13.02 12.58,-12.38 6.58,-12.38 ; 6.58,-10.48 12.58,-10.48 12.58,-9.84 6.58,-9.84 ; 6.58,-7.94 12.58,-7.94 12.58,-7.3 6.58,-7.3 ; 6.58,-5.4 12.58,-5.4 12.58,-4.76 6.58,-4.76 ; 6.58,-2.86 12.58,-2.86 12.58,-2.22 6.58,-2.22 ; 6.58,-0.32 12.58,-0.32 12.58,0.32 6.58,0.32 ; 4.04,-36.83 6.58,-36.83 6.58,1.27 4.675,1.27 4.04,0.635 4.04,-36.83
  text "'.Designator'" at 6.15,-21.827 h1
Top Courtyard:
  lines w0.254: -1.77,-37.34 13.09,-37.34 13.09,1.77 -1.77,1.77 -1.77,-37.34
Top Designator:
  text ".Designator" at -1.958,-18.293 h1.52

## PinHeader_2x15_P2.54mm_Vertical [mm]
pads (30):
  rect 1.7x1.7 hole 1: 1(0,0)
  round 1.7 hole 1: 2(2.54,0) 3(0,-2.54) 4(2.54,-2.54) 5(0,-5.08) 6(2.54,-5.08) 7(0,-7.62) 8(2.54,-7.62) 9(0,-10.16) 10(2.54,-10.16) 11(0,-12.7) 12(2.54,-12.7) 13(0,-15.24) 14(2.54,-15.24) 15(0,-17.78) 16(2.54,-17.78) 17(0,-20.32) 18(2.54,-20.32) 19(0,-22.86) 20(2.54,-22.86) 21(0,-25.4) 22(2.54,-25.4) 23(0,-27.94) 24(2.54,-27.94) 25(0,-30.48) 26(2.54,-30.48) 27(0,-33.02) 28(2.54,-33.02) 29(0,-35.56) 30(2.54,-35.56)
F.SilkS:
  lines w0.254: -1.38,0 -1.38,1.38 0,1.38 ; -1.38,-36.94 3.92,-36.94 3.92,1.38 1.27,1.38 1.27,-1.27 -1.38,-1.27 -1.38,-36.94
Top Assembly:
  lines w0.254: -1.27,-36.83 3.81,-36.83 3.81,1.27 0,1.27 -1.27,0 -1.27,-36.83
  text "'.Designator'" at 2.11,-21.827 h1
Top Courtyard:
  lines w0.254: -1.77,-37.34 4.32,-37.34 4.32,1.78 -1.77,1.78 -1.77,-37.34
Top Designator:
  text ".Designator" at -6.343,-18.288 h1.52

## PinHeader_2x15_P2.54mm_Vertical_SMD [mm]
pads (30):
  rect 3.15x1 smd: 1(-2.525,17.78) 2(2.525,17.78) 3(-2.525,15.24) 4(2.525,15.24) 5(-2.525,12.7) 6(2.525,12.7) 7(-2.525,10.16) 8(2.525,10.16) 9(-2.525,7.62) 10(2.525,7.62) 11(-2.525,5.08) 12(2.525,5.08) 13(-2.525,2.54) 14(2.525,2.54) 15(-2.525,0) 16(2.525,0) 17(-2.525,-2.54) 18(2.525,-2.54) 19(-2.525,-5.08) 20(2.525,-5.08) 21(-2.525,-7.62) 22(2.525,-7.62) 23(-2.525,-10.16) 24(2.525,-10.16) 25(-2.525,-12.7) 26(2.525,-12.7) 27(-2.525,-15.24) 28(2.525,-15.24) 29(-2.525,-17.78) 30(2.525,-17.78)
F.SilkS:
  lines w0.254: -4.04,18.59 -2.65,18.59 -2.65,19.16 2.65,19.16 2.65,18.59 ; -2.65,-18.59 -2.65,-19.16 2.65,-19.16 2.65,-18.59 ; -2.65,-16.97 -2.65,-16.05 ; -2.65,-14.43 -2.65,-13.51 ; -2.65,-11.89 -2.65,-10.97 ; -2.65,-9.35 -2.65,-8.43 ; -2.65,-6.81 -2.65,-5.89 ; -2.65,-4.27 -2.65,-3.35 ; -2.65,-1.73 -2.65,-0.81 ; -2.65,0.81 -2.65,1.73 ; -2.65,3.35 -2.65,4.27 ; -2.65,5.89 -2.65,6.81 ; -2.65,8.43 -2.65,9.35 ; -2.65,10.97 -2.65,11.89 ; -2.65,13.51 -2.65,14.43 ; -2.65,16.05 -2.65,16.97 ; 2.65,-16.97 2.65,-16.05 ; 2.65,-14.43 2.65,-13.51 ; 2.65,-11.89 2.65,-10.97 ; 2.65,-9.35 2.65,-8.43 ; 2.65,-6.81 2.65,-5.89 ; 2.65,-4.27 2.65,-3.35 ; 2.65,-1.73 2.65,-0.81 ; 2.65,0.81 2.65,1.73 ; 2.65,3.35 2.65,4.27 ; 2.65,5.89 2.65,6.81 ; 2.65,8.43 2.65,9.35 ; 2.65,10.97 2.65,11.89 ; 2.65,13.51 2.65,14.43 ; 2.65,16.05 2.65,16.97
Top Assembly:
  lines w0.254: -2.54,-18.1 -3.6,-18.1 -3.6,-17.46 -2.54,-17.46 ; -2.54,-15.56 -3.6,-15.56 -3.6,-14.92 -2.54,-14.92 ; -2.54,-13.02 -3.6,-13.02 -3.6,-12.38 -2.54,-12.38 ; -2.54,-10.48 -3.6,-10.48 -3.6,-9.84 -2.54,-9.84 ; -2.54,-7.94 -3.6,-7.94 -3.6,-7.3 -2.54,-7.3 ; -2.54,-5.4 -3.6,-5.4 -3.6,-4.76 -2.54,-4.76 ; -2.54,-2.86 -3.6,-2.86 -3.6,-2.22 -2.54,-2.22 ; -2.54,-0.32 -3.6,-0.32 -3.6,0.32 -2.54,0.32 ; -2.54,2.22 -3.6,2.22 -3.6,2.86 -2.54,2.86 ; -2.54,4.76 -3.6,4.76 -3.6,5.4 -2.54,5.4 ; -2.54,7.3 -3.6,7.3 -3.6,7.94 -2.54,7.94 ; -2.54,9.84 -3.6,9.84 -3.6,10.48 -2.54,10.48 ; -2.54,12.38 -3.6,12.38 -3.6,13.02 -2.54,13.02 ; -2.54,14.92 -3.6,14.92 -3.6,15.56 -2.54,15.56 ; -2.54,17.46 -3.6,17.46 -3.6,18.1 -2.54,18.1 ; 2.54,-18.1 3.6,-18.1 3.6,-17.46 2.54,-17.46 ; 2.54,-15.56 3.6,-15.56 3.6,-14.92 2.54,-14.92 ; 2.54,-13.02 3.6,-13.02 3.6,-12.38 2.54,-12.38 ; 2.54,-10.48 3.6,-10.48 3.6,-9.84 2.54,-9.84 ; 2.54,-7.94 3.6,-7.94 3.6,-7.3 2.54,-7.3 ; 2.54,-5.4 3.6,-5.4 3.6,-4.76 2.54,-4.76 ; 2.54,-2.86 3.6,-2.86 3.6,-2.22 2.54,-2.22 ; 2.54,-0.32 3.6,-0.32 3.6,0.32 2.54,0.32 ; 2.54,2.22 3.6,2.22 3.6,2.86 2.54,2.86 ; 2.54,4.76 3.6,4.76 3.6,5.4 2.54,5.4 ; 2.54,7.3 3.6,7.3 3.6,7.94 2.54,7.94 ; 2.54,9.84 3.6,9.84 3.6,10.48 2.54,10.48 ; 2.54,12.38 3.6,12.38 3.6,13.02 2.54,13.02 ; 2.54,14.92 3.6,14.92 3.6,15.56 2.54,15.56 ; 2.54,17.46 3.6,17.46 3.6,18.1 2.54,18.1 ; -2.54,18.1 -2.54,-19.05 2.54,-19.05 2.54,19.05 -1.59,19.05 -2.54,18.1
  text "'.Designator'" at 0.84,-4.047 h1
Top Courtyard:
  lines w0.254: -5.87,-19.56 5.88,-19.56 5.88,19.56 -5.87,19.56 -5.87,-19.56
Top Designator:
  text ".Designator" at -7.613,-0.508 h1.52

## PinHeader_2x16_P2.54mm_Horizontal [mm]
pads (32):
  rect 1.7x1.7 hole 1: 1(0,0)
  round 1.7 hole 1: 2(2.54,0) 3(0,-2.54) 4(2.54,-2.54) 5(0,-5.08) 6(2.54,-5.08) 7(0,-7.62) 8(2.54,-7.62) 9(0,-10.16) 10(2.54,-10.16) 11(0,-12.7) 12(2.54,-12.7) 13(0,-15.24) 14(2.54,-15.24) 15(0,-17.78) 16(2.54,-17.78) 17(0,-20.32) 18(2.54,-20.32) 19(0,-22.86) 20(2.54,-22.86) 21(0,-25.4) 22(2.54,-25.4) 23(0,-27.94) 24(2.54,-27.94) 25(0,-30.48) 26(2.54,-30.48) 27(0,-33.02) 28(2.54,-33.02) 29(0,-35.56) 30(2.54,-35.56) 31(0,-38.1) 32(2.54,-38.1)
F.SilkS:
  lines w0.254: -1.27,0 -1.27,1.27 0,1.27 ; 1.077,-38.53 1.463,-38.53 ; 1.077,-37.67 1.463,-37.67 ; 1.077,-35.99 1.463,-35.99 ; 1.077,-35.13 1.463,-35.13 ; 1.077,-33.45 1.463,-33.45 ; 1.077,-32.59 1.463,-32.59 ; 1.077,-30.91 1.463,-30.91 ; 1.077,-30.05 1.463,-30.05 ; 1.077,-28.37 1.463,-28.37 ; 1.077,-27.51 1.463,-27.51 ; 1.077,-25.83 1.463,-25.83 ; 1.077,-24.97 1.463,-24.97 ; 1.077,-23.29 1.463,-23.29 ; 1.077,-22.43 1.463,-22.43 ; 1.077,-20.75 1.463,-20.75 ; 1.077,-19.89 1.463,-19.89 ; 1.077,-18.21 1.463,-18.21 ; 1.077,-17.35 1.463,-17.35 ; 1.077,-15.67 1.463,-15.67 ; 1.077,-14.81 1.463,-14.81 ; 1.077,-13.13 1.463,-13.13 ; 1.077,-12.27 1.463,-12.27 ; 1.077,-10.59 1.463,-10.59 ; 1.077,-9.73 1.463,-9.73 ; 1.077,-8.05 1.463,-8.05 ; 1.077,-7.19 1.463,-7.19 ; 1.077,-5.51 1.463,-5.51 ; 1.077,-4.65 1.463,-4.65 ; 1.077,-2.97 1.463,-2.97 ; 1.077,-2.11 1.463,-2.11 ; 1.16,-0.43 1.463,-0.43 ; 1.16,0.43 1.463,0.43 ; 3.617,-38.53 3.93,-38.53 ; 3.617,-37.67 3.93,-37.67 ; 3.617,-35.99 3.93,-35.99 ; 3.617,-35.13 3.93,-35.13 ; 3.617,-33.45 3.93,-33.45 ; 3.617,-32.59 3.93,-32.59 ; 3.617,-30.91 3.93,-30.91 ; 3.617,-30.05 3.93,-30.05 ; 3.617,-28.37 3.93,-28.37 ; 3.617,-27.51 3.93,-27.51 ; 3.617,-25.83 3.93,-25.83 ; 3.617,-24.97 3.93,-24.97 ; 3.617,-23.29 3.93,-23.29 ; 3.617,-22.43 3.93,-22.43 ; 3.617,-20.75 3.93,-20.75 ; 3.617,-19.89 3.93,-19.89 ; 3.617,-18.21 3.93,-18.21 ; 3.617,-17.35 3.93,-17.35 ; 3.617,-15.67 3.93,-15.67 ; 3.617,-14.81 3.93,-14.81 ; 3.617,-13.13 3.93,-13.13 ; 3.617,-12.27 3.93,-12.27 ; 3.617,-10.59 3.93,-10.59 ; 3.617,-9.73 3.93,-9.73 ; 3.617,-8.05 3.93,-8.05 ; 3.617,-7.19 3.93,-7.19 ; 3.617,-5.51 3.93,-5.51 ; 3.617,-4.65 3.93,-4.65 ; 3.617,-2.97 3.93,-2.97 ; 3.617,-2.11 3.93,-2.11 ; 3.617,-0.43 3.93,-0.43 ; 3.617,0.43 3.93,0.43 ; 3.93,-36.83 6.69,-36.83 ; 3.93,-34.29 6.69,-34.29 ; 3.93,-31.75 6.69,-31.75 ; 3.93,-29.21 6.69,-29.21 ; 3.93,-26.67 6.69,-26.67 ; 3.93,-24.13 6.69,-24.13 ; 3.93,-21.59 6.69,-21.59 ; 3.93,-19.05 6.69,-19.05 ; 3.93,-16.51 6.69,-16.51 ; 3.93,-13.97 6.69,-13.97 ; 3.93,-11.43 6.69,-11.43 ; 3.93,-8.89 6.69,-8.89 ; 3.93,-6.35 6.69,-6.35 ; 3.93,-3.81 6.69,-3.81 ; 3.93,-1.27 6.69,-1.27 ; 6.69,-38.53 12.69,-38.53 12.69,-37.67 6.69,-37.67 ; 6.69,-35.99 12.69,-35.99 12.69,-35.13 6.69,-35.13 ; 6.69,-33.45 12.69,-33.45 12.69,-32.59 6.69,-32.59 ; 6.69,-30.91 12.69,-30.91 12.69,-30.05 6.69,-30.05 ; 6.69,-28.37 12.69,-28.37 12.69,-27.51 6.69,-27.51 ; 6.69,-25.83 12.69,-25.83 12.69,-24.97 6.69,-24.97 ; 6.69,-23.29 12.69,-23.29 12.69,-22.43 6.69,-22.43 ; 6.69,-20.75 12.69,-20.75 12.69,-19.89 6.69,-19.89 ; 6.69,-18.21 12.69,-18.21 12.69,-17.35 6.69,-17.35 ; 6.69,-15.67 12.69,-15.67 12.69,-14.81 6.69,-14.81 ; 6.69,-13.13 12.69,-13.13 12.69,-12.27 6.69,-12.27 ; 6.69,-10.59 12.69,-10.59 12.69,-9.73 6.69,-9.73 ; 6.69,-8.05 12.69,-8.05 12.69,-7.19 6.69,-7.19 ; 6.69,-5.51 12.69,-5.51 12.69,-4.65 6.69,-4.65 ; 6.69,-2.97 12.69,-2.97 12.69,-2.11 6.69,-2.11 ; 3.93,-39.48 6.69,-39.48 6.69,1.38 3.93,1.38 3.93,-39.48 ; 6.69,-0.43 12.69,-0.43 12.69,0.43 6.69,0.43 6.69,-0.43
Top Assembly:
  lines w0.254: 4.04,-38.42 -0.32,-38.42 -0.32,-37.78 4.04,-37.78 ; 4.04,-35.88 -0.32,-35.88 -0.32,-35.24 4.04,-35.24 ; 4.04,-33.34 -0.32,-33.34 -0.32,-32.7 4.04,-32.7 ; 4.04,-30.8 -0.32,-30.8 -0.32,-30.16 4.04,-30.16 ; 4.04,-28.26 -0.32,-28.26 -0.32,-27.62 4.04,-27.62 ; 4.04,-25.72 -0.32,-25.72 -0.32,-25.08 4.04,-25.08 ; 4.04,-23.18 -0.32,-23.18 -0.32,-22.54 4.04,-22.54 ; 4.04,-20.64 -0.32,-20.64 -0.32,-20 4.04,-20 ; 4.04,-18.1 -0.32,-18.1 -0.32,-17.46 4.04,-17.46 ; 4.04,-15.56 -0.32,-15.56 -0.32,-14.92 4.04,-14.92 ; 4.04,-13.02 -0.32,-13.02 -0.32,-12.38 4.04,-12.38 ; 4.04,-10.48 -0.32,-10.48 -0.32,-9.84 4.04,-9.84 ; 4.04,-7.94 -0.32,-7.94 -0.32,-7.3 4.04,-7.3 ; 4.04,-5.4 -0.32,-5.4 -0.32,-4.76 4.04,-4.76 ; 4.04,-2.86 -0.32,-2.86 -0.32,-2.22 4.04,-2.22 ; 4.04,-0.32 -0.32,-0.32 -0.32,0.32 4.04,0.32 ; 6.58,-38.42 12.58,-38.42 12.58,-37.78 6.58,-37.78 ; 6.58,-35.88 12.58,-35.88 12.58,-35.24 6.58,-35.24 ; 6.58,-33.34 12.58,-33.34 12.58,-32.7 6.58,-32.7 ; 6.58,-30.8 12.58,-30.8 12.58,-30.16 6.58,-30.16 ; 6.58,-28.26 12.58,-28.26 12.58,-27.62 6.58,-27.62 ; 6.58,-25.72 12.58,-25.72 12.58,-25.08 6.58,-25.08 ; 6.58,-23.18 12.58,-23.18 12.58,-22.54 6.58,-22.54 ; 6.58,-20.64 12.58,-20.64 12.58,-20 6.58,-20 ; 6.58,-18.1 12.58,-18.1 12.58,-17.46 6.58,-17.46 ; 6.58,-15.56 12.58,-15.56 12.58,-14.92 6.58,-14.92 ; 6.58,-13.02 12.58,-13.02 12.58,-12.38 6.58,-12.38 ; 6.58,-10.48 12.58,-10.48 12.58,-9.84 6.58,-9.84 ; 6.58,-7.94 12.58,-7.94 12.58,-7.3 6.58,-7.3 ; 6.58,-5.4 12.58,-5.4 12.58,-4.76 6.58,-4.76 ; 6.58,-2.86 12.58,-2.86 12.58,-2.22 6.58,-2.22 ; 6.58,-0.32 12.58,-0.32 12.58,0.32 6.58,0.32 ; 4.04,-39.37 6.58,-39.37 6.58,1.27 4.675,1.27 4.04,0.635 4.04,-39.37
  text "'.Designator'" at 6.15,-23.097 h1
Top Courtyard:
  lines w0.254: -1.77,-39.88 13.09,-39.88 13.09,1.77 -1.77,1.77 -1.77,-39.88
Top Designator:
  text ".Designator" at -1.958,-19.563 h1.52

## PinHeader_2x16_P2.54mm_Vertical [mm]
pads (32):
  rect 1.7x1.7 hole 1: 1(0,0)
  round 1.7 hole 1: 2(2.54,0) 3(0,-2.54) 4(2.54,-2.54) 5(0,-5.08) 6(2.54,-5.08) 7(0,-7.62) 8(2.54,-7.62) 9(0,-10.16) 10(2.54,-10.16) 11(0,-12.7) 12(2.54,-12.7) 13(0,-15.24) 14(2.54,-15.24) 15(0,-17.78) 16(2.54,-17.78) 17(0,-20.32) 18(2.54,-20.32) 19(0,-22.86) 20(2.54,-22.86) 21(0,-25.4) 22(2.54,-25.4) 23(0,-27.94) 24(2.54,-27.94) 25(0,-30.48) 26(2.54,-30.48) 27(0,-33.02) 28(2.54,-33.02) 29(0,-35.56) 30(2.54,-35.56) 31(0,-38.1) 32(2.54,-38.1)
F.SilkS:
  lines w0.254: -1.38,0 -1.38,1.38 0,1.38 ; -1.38,-39.48 3.92,-39.48 3.92,1.38 1.27,1.38 1.27,-1.27 -1.38,-1.27 -1.38,-39.48
Top Assembly:
  lines w0.254: -1.27,-39.37 3.81,-39.37 3.81,1.27 0,1.27 -1.27,0 -1.27,-39.37
  text "'.Designator'" at 2.11,-23.097 h1
Top Courtyard:
  lines w0.254: -1.77,-39.88 4.32,-39.88 4.32,1.78 -1.77,1.78 -1.77,-39.88
Top Designator:
  text ".Designator" at -6.343,-19.558 h1.52

## PinHeader_2x16_P2.54mm_Vertical_SMD [mm]
pads (32):
  rect 3.15x1 smd: 1(-2.525,19.05) 2(2.525,19.05) 3(-2.525,16.51) 4(2.525,16.51) 5(-2.525,13.97) 6(2.525,13.97) 7(-2.525,11.43) 8(2.525,11.43) 9(-2.525,8.89) 10(2.525,8.89) 11(-2.525,6.35) 12(2.525,6.35) 13(-2.525,3.81) 14(2.525,3.81) 15(-2.525,1.27) 16(2.525,1.27) 17(-2.525,-1.27) 18(2.525,-1.27) 19(-2.525,-3.81) 20(2.525,-3.81) 21(-2.525,-6.35) 22(2.525,-6.35) 23(-2.525,-8.89) 24(2.525,-8.89) 25(-2.525,-11.43) 26(2.525,-11.43) 27(-2.525,-13.97) 28(2.525,-13.97) 29(-2.525,-16.51) 30(2.525,-16.51) 31(-2.525,-19.05) 32(2.525,-19.05)
F.SilkS:
  lines w0.254: -4.04,19.86 -2.65,19.86 -2.65,20.43 2.65,20.43 2.65,19.86 ; -2.65,-19.86 -2.65,-20.43 2.65,-20.43 2.65,-19.86 ; -2.65,-18.24 -2.65,-17.32 ; -2.65,-15.7 -2.65,-14.78 ; -2.65,-13.16 -2.65,-12.24 ; -2.65,-10.62 -2.65,-9.7 ; -2.65,-8.08 -2.65,-7.16 ; -2.65,-5.54 -2.65,-4.62 ; -2.65,-3 -2.65,-2.08 ; -2.65,-0.46 -2.65,0.46 ; -2.65,2.08 -2.65,3 ; -2.65,4.62 -2.65,5.54 ; -2.65,7.16 -2.65,8.08 ; -2.65,9.7 -2.65,10.62 ; -2.65,12.24 -2.65,13.16 ; -2.65,14.78 -2.65,15.7 ; -2.65,17.32 -2.65,18.24 ; 2.65,-18.24 2.65,-17.32 ; 2.65,-15.7 2.65,-14.78 ; 2.65,-13.16 2.65,-12.24 ; 2.65,-10.62 2.65,-9.7 ; 2.65,-8.08 2.65,-7.16 ; 2.65,-5.54 2.65,-4.62 ; 2.65,-3 2.65,-2.08 ; 2.65,-0.46 2.65,0.46 ; 2.65,2.08 2.65,3 ; 2.65,4.62 2.65,5.54 ; 2.65,7.16 2.65,8.08 ; 2.65,9.7 2.65,10.62 ; 2.65,12.24 2.65,13.16 ; 2.65,14.78 2.65,15.7 ; 2.65,17.32 2.65,18.24
Top Assembly:
  lines w0.254: -2.54,-19.37 -3.6,-19.37 -3.6,-18.73 -2.54,-18.73 ; -2.54,-16.83 -3.6,-16.83 -3.6,-16.19 -2.54,-16.19 ; -2.54,-14.29 -3.6,-14.29 -3.6,-13.65 -2.54,-13.65 ; -2.54,-11.75 -3.6,-11.75 -3.6,-11.11 -2.54,-11.11 ; -2.54,-9.21 -3.6,-9.21 -3.6,-8.57 -2.54,-8.57 ; -2.54,-6.67 -3.6,-6.67 -3.6,-6.03 -2.54,-6.03 ; -2.54,-4.13 -3.6,-4.13 -3.6,-3.49 -2.54,-3.49 ; -2.54,-1.59 -3.6,-1.59 -3.6,-0.95 -2.54,-0.95 ; -2.54,0.95 -3.6,0.95 -3.6,1.59 -2.54,1.59 ; -2.54,3.49 -3.6,3.49 -3.6,4.13 -2.54,4.13 ; -2.54,6.03 -3.6,6.03 -3.6,6.67 -2.54,6.67 ; -2.54,8.57 -3.6,8.57 -3.6,9.21 -2.54,9.21 ; -2.54,11.11 -3.6,11.11 -3.6,11.75 -2.54,11.75 ; -2.54,13.65 -3.6,13.65 -3.6,14.29 -2.54,14.29 ; -2.54,16.19 -3.6,16.19 -3.6,16.83 -2.54,16.83 ; -2.54,18.73 -3.6,18.73 -3.6,19.37 -2.54,19.37 ; 2.54,-19.37 3.6,-19.37 3.6,-18.73 2.54,-18.73 ; 2.54,-16.83 3.6,-16.83 3.6,-16.19 2.54,-16.19 ; 2.54,-14.29 3.6,-14.29 3.6,-13.65 2.54,-13.65 ; 2.54,-11.75 3.6,-11.75 3.6,-11.11 2.54,-11.11 ; 2.54,-9.21 3.6,-9.21 3.6,-8.57 2.54,-8.57 ; 2.54,-6.67 3.6,-6.67 3.6,-6.03 2.54,-6.03 ; 2.54,-4.13 3.6,-4.13 3.6,-3.49 2.54,-3.49 ; 2.54,-1.59 3.6,-1.59 3.6,-0.95 2.54,-0.95 ; 2.54,0.95 3.6,0.95 3.6,1.59 2.54,1.59 ; 2.54,3.49 3.6,3.49 3.6,4.13 2.54,4.13 ; 2.54,6.03 3.6,6.03 3.6,6.67 2.54,6.67 ; 2.54,8.57 3.6,8.57 3.6,9.21 2.54,9.21 ; 2.54,11.11 3.6,11.11 3.6,11.75 2.54,11.75 ; 2.54,13.65 3.6,13.65 3.6,14.29 2.54,14.29 ; 2.54,16.19 3.6,16.19 3.6,16.83 2.54,16.83 ; 2.54,18.73 3.6,18.73 3.6,19.37 2.54,19.37 ; -2.54,19.37 -2.54,-20.32 2.54,-20.32 2.54,20.32 -1.59,20.32 -2.54,19.37
  text "'.Designator'" at 0.84,-4.047 h1
Top Courtyard:
  lines w0.254: -5.87,-20.83 5.88,-20.83 5.88,20.83 -5.87,20.83 -5.87,-20.83
Top Designator:
  text ".Designator" at -7.613,-0.508 h1.52

## PinHeader_2x17_P2.54mm_Horizontal [mm]
pads (34):
  rect 1.7x1.7 hole 1: 1(0,0)
  round 1.7 hole 1: 2(2.54,0) 3(0,-2.54) 4(2.54,-2.54) 5(0,-5.08) 6(2.54,-5.08) 7(0,-7.62) 8(2.54,-7.62) 9(0,-10.16) 10(2.54,-10.16) 11(0,-12.7) 12(2.54,-12.7) 13(0,-15.24) 14(2.54,-15.24) 15(0,-17.78) 16(2.54,-17.78) 17(0,-20.32) 18(2.54,-20.32) 19(0,-22.86) 20(2.54,-22.86) 21(0,-25.4) 22(2.54,-25.4) 23(0,-27.94) 24(2.54,-27.94) 25(0,-30.48) 26(2.54,-30.48) 27(0,-33.02) 28(2.54,-33.02) 29(0,-35.56) 30(2.54,-35.56) 31(0,-38.1) 32(2.54,-38.1) 33(0,-40.64) 34(2.54,-40.64)
F.SilkS:
  lines w0.254: -1.27,0 -1.27,1.27 0,1.27 ; 1.077,-41.07 1.463,-41.07 ; 1.077,-40.21 1.463,-40.21 ; 1.077,-38.53 1.463,-38.53 ; 1.077,-37.67 1.463,-37.67 ; 1.077,-35.99 1.463,-35.99 ; 1.077,-35.13 1.463,-35.13 ; 1.077,-33.45 1.463,-33.45 ; 1.077,-32.59 1.463,-32.59 ; 1.077,-30.91 1.463,-30.91 ; 1.077,-30.05 1.463,-30.05 ; 1.077,-28.37 1.463,-28.37 ; 1.077,-27.51 1.463,-27.51 ; 1.077,-25.83 1.463,-25.83 ; 1.077,-24.97 1.463,-24.97 ; 1.077,-23.29 1.463,-23.29 ; 1.077,-22.43 1.463,-22.43 ; 1.077,-20.75 1.463,-20.75 ; 1.077,-19.89 1.463,-19.89 ; 1.077,-18.21 1.463,-18.21 ; 1.077,-17.35 1.463,-17.35 ; 1.077,-15.67 1.463,-15.67 ; 1.077,-14.81 1.463,-14.81 ; 1.077,-13.13 1.463,-13.13 ; 1.077,-12.27 1.463,-12.27 ; 1.077,-10.59 1.463,-10.59 ; 1.077,-9.73 1.463,-9.73 ; 1.077,-8.05 1.463,-8.05 ; 1.077,-7.19 1.463,-7.19 ; 1.077,-5.51 1.463,-5.51 ; 1.077,-4.65 1.463,-4.65 ; 1.077,-2.97 1.463,-2.97 ; 1.077,-2.11 1.463,-2.11 ; 1.16,-0.43 1.463,-0.43 ; 1.16,0.43 1.463,0.43 ; 3.617,-41.07 3.93,-41.07 ; 3.617,-40.21 3.93,-40.21 ; 3.617,-38.53 3.93,-38.53 ; 3.617,-37.67 3.93,-37.67 ; 3.617,-35.99 3.93,-35.99 ; 3.617,-35.13 3.93,-35.13 ; 3.617,-33.45 3.93,-33.45 ; 3.617,-32.59 3.93,-32.59 ; 3.617,-30.91 3.93,-30.91 ; 3.617,-30.05 3.93,-30.05 ; 3.617,-28.37 3.93,-28.37 ; 3.617,-27.51 3.93,-27.51 ; 3.617,-25.83 3.93,-25.83 ; 3.617,-24.97 3.93,-24.97 ; 3.617,-23.29 3.93,-23.29 ; 3.617,-22.43 3.93,-22.43 ; 3.617,-20.75 3.93,-20.75 ; 3.617,-19.89 3.93,-19.89 ; 3.617,-18.21 3.93,-18.21 ; 3.617,-17.35 3.93,-17.35 ; 3.617,-15.67 3.93,-15.67 ; 3.617,-14.81 3.93,-14.81 ; 3.617,-13.13 3.93,-13.13 ; 3.617,-12.27 3.93,-12.27 ; 3.617,-10.59 3.93,-10.59 ; 3.617,-9.73 3.93,-9.73 ; 3.617,-8.05 3.93,-8.05 ; 3.617,-7.19 3.93,-7.19 ; 3.617,-5.51 3.93,-5.51 ; 3.617,-4.65 3.93,-4.65 ; 3.617,-2.97 3.93,-2.97 ; 3.617,-2.11 3.93,-2.11 ; 3.617,-0.43 3.93,-0.43 ; 3.617,0.43 3.93,0.43 ; 3.93,-39.37 6.69,-39.37 ; 3.93,-36.83 6.69,-36.83 ; 3.93,-34.29 6.69,-34.29 ; 3.93,-31.75 6.69,-31.75 ; 3.93,-29.21 6.69,-29.21 ; 3.93,-26.67 6.69,-26.67 ; 3.93,-24.13 6.69,-24.13 ; 3.93,-21.59 6.69,-21.59 ; 3.93,-19.05 6.69,-19.05 ; 3.93,-16.51 6.69,-16.51 ; 3.93,-13.97 6.69,-13.97 ; 3.93,-11.43 6.69,-11.43 ; 3.93,-8.89 6.69,-8.89 ; 3.93,-6.35 6.69,-6.35 ; 3.93,-3.81 6.69,-3.81 ; 3.93,-1.27 6.69,-1.27 ; 6.69,-41.07 12.69,-41.07 12.69,-40.21 6.69,-40.21 ; 6.69,-38.53 12.69,-38.53 12.69,-37.67 6.69,-37.67 ; 6.69,-35.99 12.69,-35.99 12.69,-35.13 6.69,-35.13 ; 6.69,-33.45 12.69,-33.45 12.69,-32.59 6.69,-32.59 ; 6.69,-30.91 12.69,-30.91 12.69,-30.05 6.69,-30.05 ; 6.69,-28.37 12.69,-28.37 12.69,-27.51 6.69,-27.51 ; 6.69,-25.83 12.69,-25.83 12.69,-24.97 6.69,-24.97 ; 6.69,-23.29 12.69,-23.29 12.69,-22.43 6.69,-22.43 ; 6.69,-20.75 12.69,-20.75 12.69,-19.89 6.69,-19.89 ; 6.69,-18.21 12.69,-18.21 12.69,-17.35 6.69,-17.35 ; 6.69,-15.67 12.69,-15.67 12.69,-14.81 6.69,-14.81 ; 6.69,-13.13 12.69,-13.13 12.69,-12.27 6.69,-12.27 ; 6.69,-10.59 12.69,-10.59 12.69,-9.73 6.69,-9.73 ; 6.69,-8.05 12.69,-8.05 12.69,-7.19 6.69,-7.19 ; 6.69,-5.51 12.69,-5.51 12.69,-4.65 6.69,-4.65 ; 6.69,-2.97 12.69,-2.97 12.69,-2.11 6.69,-2.11 ; 3.93,-42.02 6.69,-42.02 6.69,1.38 3.93,1.38 3.93,-42.02 ; 6.69,-0.43 12.69,-0.43 12.69,0.43 6.69,0.43 6.69,-0.43
Top Assembly:
  lines w0.254: 4.04,-40.96 -0.32,-40.96 -0.32,-40.32 4.04,-40.32 ; 4.04,-38.42 -0.32,-38.42 -0.32,-37.78 4.04,-37.78 ; 4.04,-35.88 -0.32,-35.88 -0.32,-35.24 4.04,-35.24 ; 4.04,-33.34 -0.32,-33.34 -0.32,-32.7 4.04,-32.7 ; 4.04,-30.8 -0.32,-30.8 -0.32,-30.16 4.04,-30.16 ; 4.04,-28.26 -0.32,-28.26 -0.32,-27.62 4.04,-27.62 ; 4.04,-25.72 -0.32,-25.72 -0.32,-25.08 4.04,-25.08 ; 4.04,-23.18 -0.32,-23.18 -0.32,-22.54 4.04,-22.54 ; 4.04,-20.64 -0.32,-20.64 -0.32,-20 4.04,-20 ; 4.04,-18.1 -0.32,-18.1 -0.32,-17.46 4.04,-17.46 ; 4.04,-15.56 -0.32,-15.56 -0.32,-14.92 4.04,-14.92 ; 4.04,-13.02 -0.32,-13.02 -0.32,-12.38 4.04,-12.38 ; 4.04,-10.48 -0.32,-10.48 -0.32,-9.84 4.04,-9.84 ; 4.04,-7.94 -0.32,-7.94 -0.32,-7.3 4.04,-7.3 ; 4.04,-5.4 -0.32,-5.4 -0.32,-4.76 4.04,-4.76 ; 4.04,-2.86 -0.32,-2.86 -0.32,-2.22 4.04,-2.22 ; 4.04,-0.32 -0.32,-0.32 -0.32,0.32 4.04,0.32 ; 6.58,-40.96 12.58,-40.96 12.58,-40.32 6.58,-40.32 ; 6.58,-38.42 12.58,-38.42 12.58,-37.78 6.58,-37.78 ; 6.58,-35.88 12.58,-35.88 12.58,-35.24 6.58,-35.24 ; 6.58,-33.34 12.58,-33.34 12.58,-32.7 6.58,-32.7 ; 6.58,-30.8 12.58,-30.8 12.58,-30.16 6.58,-30.16 ; 6.58,-28.26 12.58,-28.26 12.58,-27.62 6.58,-27.62 ; 6.58,-25.72 12.58,-25.72 12.58,-25.08 6.58,-25.08 ; 6.58,-23.18 12.58,-23.18 12.58,-22.54 6.58,-22.54 ; 6.58,-20.64 12.58,-20.64 12.58,-20 6.58,-20 ; 6.58,-18.1 12.58,-18.1 12.58,-17.46 6.58,-17.46 ; 6.58,-15.56 12.58,-15.56 12.58,-14.92 6.58,-14.92 ; 6.58,-13.02 12.58,-13.02 12.58,-12.38 6.58,-12.38 ; 6.58,-10.48 12.58,-10.48 12.58,-9.84 6.58,-9.84 ; 6.58,-7.94 12.58,-7.94 12.58,-7.3 6.58,-7.3 ; 6.58,-5.4 12.58,-5.4 12.58,-4.76 6.58,-4.76 ; 6.58,-2.86 12.58,-2.86 12.58,-2.22 6.58,-2.22 ; 6.58,-0.32 12.58,-0.32 12.58,0.32 6.58,0.32 ; 4.04,-41.91 6.58,-41.91 6.58,1.27 4.675,1.27 4.04,0.635 4.04,-41.91
  text "'.Designator'" at 6.15,-24.367 h1
Top Courtyard:
  lines w0.254: -1.77,-42.41 13.09,-42.41 13.09,1.77 -1.77,1.77 -1.77,-42.41
Top Designator:
  text ".Designator" at -1.958,-20.828 h1.52

## PinHeader_2x17_P2.54mm_Vertical [mm]
pads (34):
  rect 1.7x1.7 hole 1: 1(0,0)
  round 1.7 hole 1: 2(2.54,0) 3(0,-2.54) 4(2.54,-2.54) 5(0,-5.08) 6(2.54,-5.08) 7(0,-7.62) 8(2.54,-7.62) 9(0,-10.16) 10(2.54,-10.16) 11(0,-12.7) 12(2.54,-12.7) 13(0,-15.24) 14(2.54,-15.24) 15(0,-17.78) 16(2.54,-17.78) 17(0,-20.32) 18(2.54,-20.32) 19(0,-22.86) 20(2.54,-22.86) 21(0,-25.4) 22(2.54,-25.4) 23(0,-27.94) 24(2.54,-27.94) 25(0,-30.48) 26(2.54,-30.48) 27(0,-33.02) 28(2.54,-33.02) 29(0,-35.56) 30(2.54,-35.56) 31(0,-38.1) 32(2.54,-38.1) 33(0,-40.64) 34(2.54,-40.64)
F.SilkS:
  lines w0.254: -1.38,0 -1.38,1.38 0,1.38 ; -1.38,-42.02 3.92,-42.02 3.92,1.38 1.27,1.38 1.27,-1.27 -1.38,-1.27 -1.38,-42.02
Top Assembly:
  lines w0.254: -1.27,-41.91 3.81,-41.91 3.81,1.27 0,1.27 -1.27,0 -1.27,-41.91
  text "'.Designator'" at 2.11,-24.367 h1
Top Courtyard:
  lines w0.254: -1.77,-42.41 4.32,-42.41 4.32,1.78 -1.77,1.78 -1.77,-42.41
Top Designator:
  text ".Designator" at -6.343,-20.823 h1.52